# Altium schematic symbol library транзисторы.SchLib: 48 symbols
Pins are listed as number, name and electrical type; pins without a type are passive.

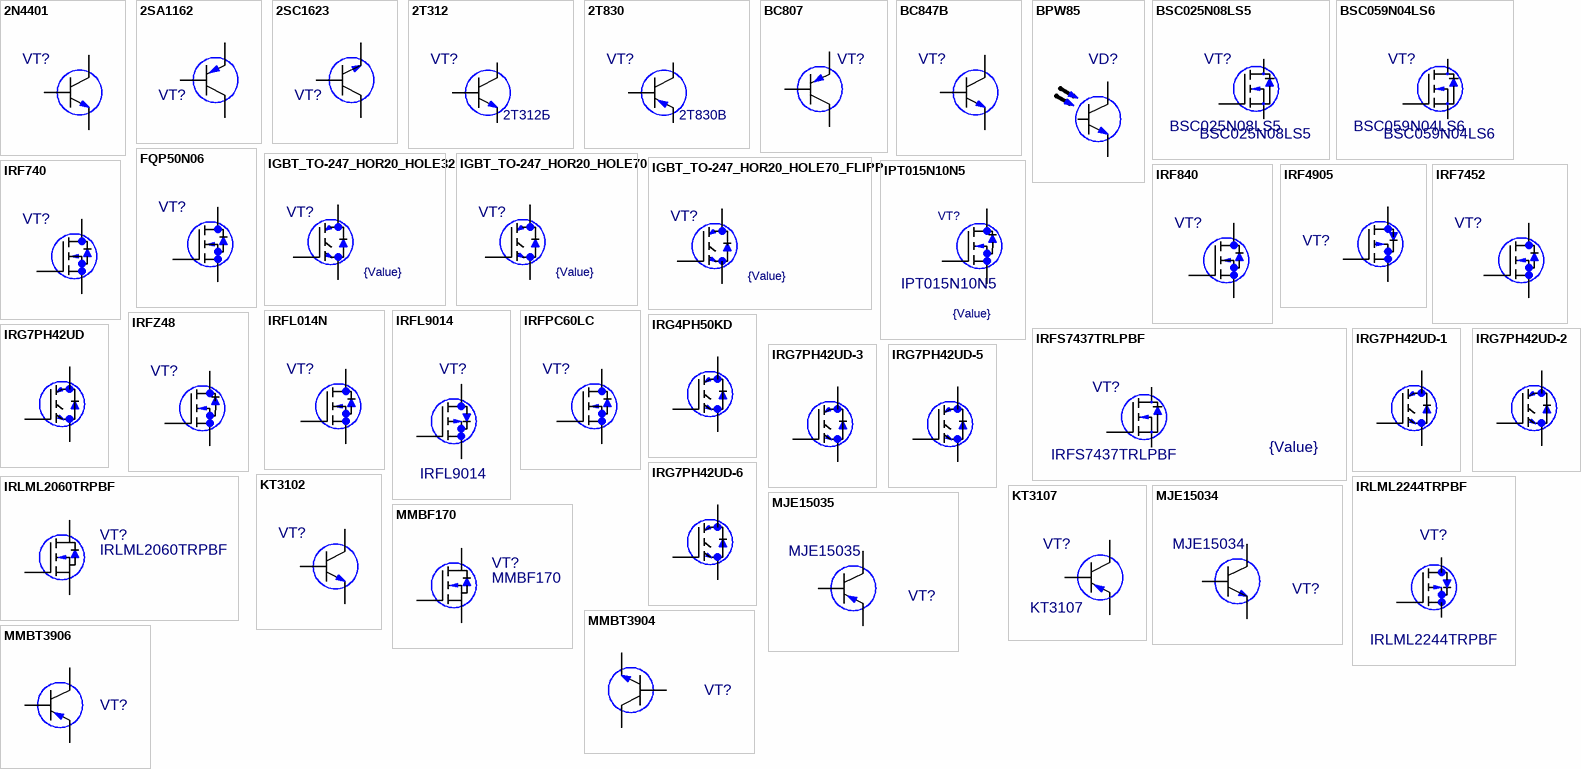
[diagram p0: symbols 2N4401 to MMBT3906]

## 2N4401
designator VT?  (value not drawn)
Value: *
footprint TO-92
pins: 1 E, 2 B, 3 C

## 2SA1162
designator VT?  (value not drawn)
Value: *
footprint SOT-23
pins: B, C, E

## 2SC1623
designator VT?  (value not drawn)
Value: *
footprint SOT-23
pins: B, C, E

## 2Т312
designator VT?, comment 2Т312Б
Постоянное напряжение коллектор-база 30 V / Постоянное напряжение коллектор-эмиттер при сопротивлении эмиттер-база 100 Ohm 30 V / Постоянное напряжение эмиттер-база 4 V / Постоянный ток коллектора 30 mA Коэффициент передачи тока в схеме с общим эмиттером при напряжении коллектор-база 2 V, токе эмиттера 20 mA 25 ... 100; Value: 2Т312Б
footprint КТЮ-3-1
pins: 1 C, 2 B, 3 E

## 2Т830
designator VT?, comment 2Т830В
Value: 2Т830В
footprint TO-39
pins: 1 C, 2 B, 3 E

## BC807
designator VT?  (value not drawn)
Value: *
footprint SOT-23
pins: B, C, E

## BC847B
designator VT?  (value not drawn)
Value: *
footprint SOT-23
pins: 1 B, 2 E, 3 C

## BPW85
designator VD?  (value not drawn)
Value: *
footprint BPW85
pins: 1 C, 2 E

## BSC025N08LS5
designator VT?
Value: BSC025N08LS5
footprint TDSON-8 (SuperSO8) (SON, 8-Leads, Body 5,15x6,15mm, Pitch 1,27mm, Thermal Pad)
pins: 1 S, 2 S hidden, 3 S hidden, 4 G, 5 D, 6 D hidden, 7 D hidden, 8 D hidden, 9 D hidden

## BSC059N04LS6
designator VT?
Value: BSC059N04LS6
footprint TDSON-8 (SuperSO8) (SON, 8-Leads, Body 5,15x6,15mm, Pitch 1,27mm, Thermal Pad)
pins: 1 S, 2 S hidden, 3 S hidden, 4 G, 5 D, 6 D hidden, 7 D hidden, 8 D hidden, 9 D hidden

## FQP50N06
designator VT?  (value not drawn)
Value: *
footprint TO-220
pins: 1 G, 2 D, 3 S, 4 hidden

## IGBT_TO-247_HOR20_HOLE32
designator VT?  value {Value}  (hidden comment: IGBT_TO-247_HOR20_HOLE32)
footprint TO-247_HOR20_HOLE32
pins: 1 G, 2 C, 3 E, 4 hidden

## IGBT_TO-247_HOR20_HOLE70
designator VT?  value {Value}  (hidden comment: IGBT_TO-247_HOR20_HOLE70)
footprint TO-247_HOR20_HOLE70
pins: 1 G, 2 C, 3 E, 4 hidden

## IGBT_TO-247_HOR20_HOLE70_FLIPP
designator VT?  value {Value}  (hidden comment: IGBT_TO-247_HOR20_HOLE70_FLIPP)
footprint TO-247_HOR20_HOLE70_FLIPPED
pins: 1 G, 2 C, 3 E, 4 hidden

## IPT015N10N5
designator VT?  value {Value}
footprint PG-HSOF-8
pins: 1 G, 2 S, 3 S hidden, 4 S hidden, 5 S hidden, 6 S hidden, 7 S hidden, 8 S hidden, 9 D

## IRF740
designator VT?  (value not drawn)
Value: *
footprint TO--220
pins: 1 G, 2 D, 3 S, 4 hidden

## IRF840
designator VT?  (value not drawn)
Value: *
footprint TO-220V
pins: 1 G, 2 D, 3 S

## IRF4905
designator VT?  (value not drawn)
Value: *
footprint TO-220V
pins: 1 G, 2 D, 3 S

## IRF7452
designator VT?  (value not drawn)
Value: *
footprint SO8
pins: 1 S, 2 S, 3 S, 4 G, 5 D, 6 D, 7 D, 8 D

## IRFL014N
designator VT?  (value not drawn)
Value: *
footprint SOT-223
pins: 1 G, 2 D, 3 S, 4 hidden

## IRFL9014
designator VT?
Value: *
footprint SOT-223
pins: 1 G, 2 D, 3 S, 4 hidden

## IRFPC60LC
designator VT?  (value not drawn)
Value: *
footprint TO-247
pins: 1 G, 2 D, 3 S, 4 hidden

## IRFS7437TRLPBF
designator VT?  value {Value}
footprint TO-263
pins: 1 G, 2 D, 3 S

## IRFZ48
designator VT?  (value not drawn)
Value: *
footprint TO-220V
pins: 1 G, 2 D, 3 S

## IRG4PH50KD
designator VT?  (value not drawn)
Value: *
footprint IRG4PH50KD
pins: 1 G, 2 C, 3 E

## IRG7PH42UD
designator VT?  (value not drawn)
Value: *
footprint TO-247
pins: 1 G, 2 C, 3 E, 4 hidden

## IRG7PH42UD-1
designator VT?  (value not drawn)
Value: *
footprint IRG7PH42UD-1
pins: 1 G, 2 C, 3 E, 4 hidden

## IRG7PH42UD-2
designator VT1?  (value not drawn)
Value: *
footprint IRG7PH42UD-2
pins: 1 G, 2 D, 3 S, 4 hidden

## IRG7PH42UD-3
designator ?  (value not drawn)
Value: *
footprint IRG7PH42UD-3
pins: 1 G, 2 C, 3 E, 4 hidden

## IRG7PH42UD-5
designator VT?  (value not drawn)
Value: *
footprint IRG7PH42UD-5
pins: 1 G, 2 D, 3 S, 4 hidden

## IRG7PH42UD-6
designator VT?  (value not drawn)
Value: *
footprint IRG7PH42UD-6
pins: 1 G, 2 D, 3 S

## IRLML2060TRPBF
designator VT?
Value: IRLML2060TRPBF
footprint SOT-23 MOSFET
pins: 1 G, 2 S, 3 D

## IRLML2244TRPBF
designator VT?
Value: *
footprint SOT-23 MOSFET
pins: 1 G, 2 S, 3 D

## KT3102
designator VT?  (value not drawn)
Value: *
footprint TO-92
pins: 1 C, 2 B, 3 E

## KT3107
designator VT?
Value: *
footprint TO-92
pins: 1 C, 2 B, 3 E

## MJE15034
designator VT?
Value: {Value}
pins: B, C, E

## MJE15035
designator VT?
Value: {Value}
pins: B, C, E

## MMBF170
designator VT?
Value: MMBF170
footprint SOT-23 MOSFET
pins: 1 G, 2 S, 3 D

## MMBT3904
designator VT?  (value not drawn)
Value: {Value}
footprint SOT-23
pins: B, C, E

## MMBT3906
designator VT?  (value not drawn)
Value: *
footprint SOT-23
pins: B, C, E

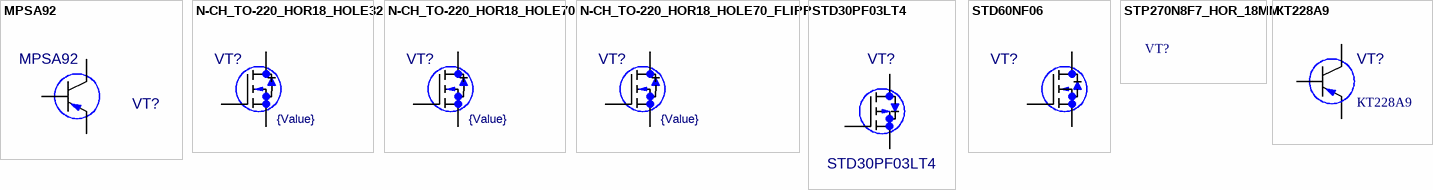
[diagram p1: symbols MPSA92 to КТ228А9]

## MPSA92
designator VT?
Value: {Value}
footprint TO-92 E-B-C
pins: B, C, E

## N-CH_TO-220_HOR18_HOLE32
designator VT?  value {Value}  (hidden comment: N-CH_TO-220_HOR18_HOLE32)
footprint TO-220_HOR18_HOLE32
pins: 1 G, 2 D, 3 S, 4 hidden

## N-CH_TO-220_HOR18_HOLE70
designator VT?  value {Value}  (hidden comment: N-CH_TO-220_HOR18_HOLE70)
footprint TO-220_HOR18_HOLE70
pins: 1 G, 2 D, 3 S, 4 hidden

## N-CH_TO-220_HOR18_HOLE70_FLIPP
designator VT?  value {Value}  (hidden comment: N-CH_TO-220_HOR18_HOLE70_FLIPP)
footprint TO-220_HOR18_HOLE70_FLIPPED
pins: 1 G, 2 D, 3 S, 4 hidden

## STD30PF03LT4
designator VT?
Value: *
footprint DPAK
pins: 1 G, 2 D, 3 S

## STD60NF06
designator VT?  (value not drawn)
Value: *
footprint DPAK
pins: 1 G, 2 D, 3 S

## STP270N8F7_HOR_18MM
designator VT?  (value not drawn)
Value: *
footprint TO-220_HOR_19MM
pins: 4 hidden

## КТ228А9
designator VT?
Value: КТ228А9
footprint SOT-23
pins: 1 B, 2 E, 3 C